# Altium footprint library FPV.PcbLib: 1 footprints
Each footprint in its own frame and in the unit in brackets; x right, y up, seen from the top. Pads: shape width x height; smd on the part's side, far side on the other; paste and mask are expansions set on the pad; w line width, h text height; cw(c..) or ccw(c..) is an arc to the next point about the centre after c.
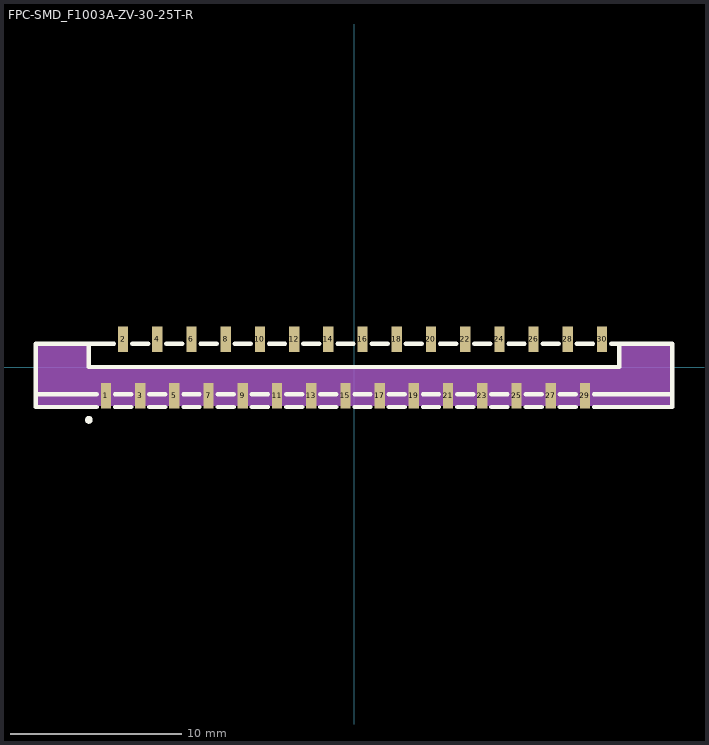
[diagram p0: the footprint, top view; thin cyan lines are the x and y axes]

## FPC-SMD_F1003A-ZV-30-25T-R [mm]
pads (30):
  rect 0.6x1.5 smd: 1(-14.5,-1.65) 2(-13.5,1.65) 3(-12.5,-1.65) 4(-11.5,1.65) 5(-10.5,-1.65) 6(-9.5,1.65) 7(-8.5,-1.65) 8(-7.5,1.65) 9(-6.5,-1.65) 10(-5.5,1.65) 11(-4.5,-1.65) 12(-3.5,1.65) 13(-2.5,-1.65) 14(-1.5,1.65) 15(-0.5,-1.65) 16(0.5,1.65) 17(1.5,-1.65) 18(2.5,1.65) 19(3.5,-1.65) 20(4.5,1.65) 21(5.5,-1.65) 22(6.5,1.65) 23(7.5,-1.65) 24(8.5,1.65) 25(9.5,-1.65) 26(10.5,1.65) 27(11.5,-1.65) 28(12.5,1.65) 29(13.5,-1.65) 30(14.5,1.65)
Top Overlay:
  circle w0.254: c-15.5,-3.064 r0.1
  lines w0.254: -18.6,-1.565 -15.031,-1.565 ; -15.507,1.386 -15.507,0.03 15.5,0.03 15.5,1.386 ; -15.031,-2.314 -16.5,-2.314 -18.6,-2.314 -18.6,0.394 -18.6,1.386 -15.75,1.386 -14.031,1.386 ; -13.969,-2.314 -13.031,-2.314 ; -13.969,-1.565 -13.031,-1.565 ; -12.526,1.386 -12.969,1.386 -12.031,1.386 ; -11.969,-2.314 -11.031,-2.314 ; -11.969,-1.565 -11.031,-1.565 ; -10.969,1.386 -10.031,1.386 ; -9.969,-1.565 -9.031,-1.565 ; -9.969,-2.314 -9.031,-2.314 ; -8.969,1.386 -8.031,1.386 ; -7.969,-2.314 -7.031,-2.314 ; -7.969,-1.565 -7.031,-1.565 ; -6.969,1.386 -6.031,1.386 ; -5.969,-2.314 -5.031,-2.314 ; -5.969,-1.565 -5.031,-1.565 ; -4.969,1.386 -4.031,1.386 ; -3.969,-2.314 -3.031,-2.314 ; -3.969,-1.565 -3.031,-1.565 ; -2.969,1.386 -2.031,1.386 ; -1.969,-2.314 -1.031,-2.314 ; -1.969,-1.565 -1.031,-1.565 ; -0.969,1.386 -0.031,1.386 ; 0.031,-2.314 0.969,-2.314 ; 0.031,-1.565 0.969,-1.565 ; 1.031,1.386 1.969,1.386 ; 2.031,-2.314 2.969,-2.314 ; 2.031,-1.565 2.969,-1.565 ; 3.031,1.386 3.969,1.386 ; 4.031,-2.314 4.969,-2.314 ; 4.031,-1.565 4.969,-1.565 ; 5.031,1.386 5.969,1.386 ; 6.031,-2.314 6.969,-2.314 ; 6.031,-1.565 6.969,-1.565 ; 7.031,1.386 7.969,1.386 ; 8.031,-2.314 8.969,-2.314 ; 8.031,-1.565 8.969,-1.565 ; 9.031,1.386 9.969,1.386 ; 10.031,-2.314 10.969,-2.314 ; 10.031,-1.565 10.969,-1.565 ; 11.031,1.386 11.969,1.386 ; 12.031,-2.314 12.969,-2.314 ; 12.031,-1.565 12.969,-1.565 ; 13.031,1.386 13.969,1.386 ; 14.031,-2.314 16.469,-2.314 18.6,-2.314 18.6,0.1 18.6,0.394 18.6,1.386 15.031,1.386 ; 14.031,-1.565 18.6,-1.565
Mechanical 15:
  region: 18.5,1.25 18.5,-2.25 -18.5,-2.25 -18.5,1.25 -15.5,1.25 -15.5,0 -15.25,0 15.25,0 15.5,0 15.5,1.25